# Altium footprint library jointbar.PCBLIB: 193 footprints (part 1 of 13)
Each footprint in its own frame and in the unit in brackets; x right, y up, seen from the top. Pads: shape width x height; smd on the part's side, far side on the other; paste and mask are expansions set on the pad; w line width, h text height; cw(c..) or ccw(c..) is an arc to the next point about the centre after c.
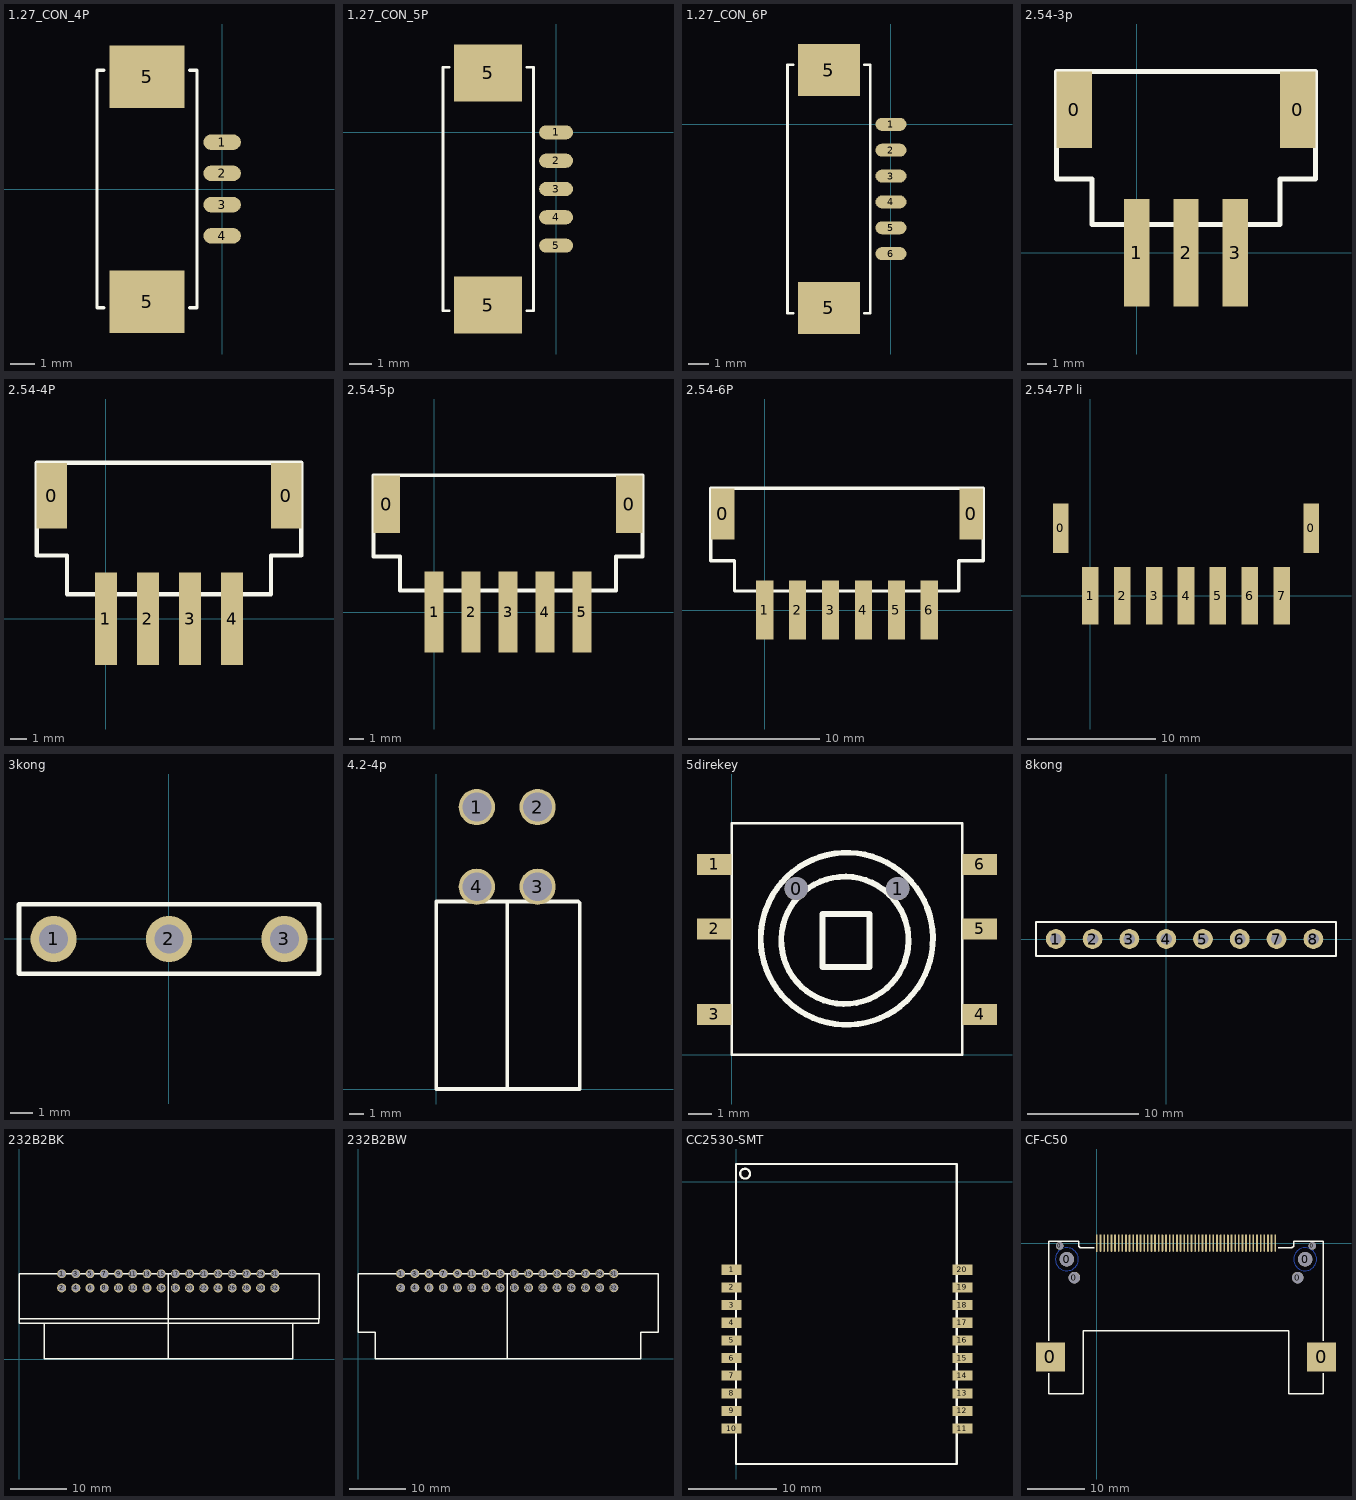
[diagram p0: the footprints below, top view; thin cyan lines are the x and y axes]

## 1.27_CON_4P [mil]
height 135
pads (6):
  oval 60x25 smd: 1(0,75) 2(0,25) 3(0,-25) 4(0,-75)
  rect 120x100 smd: 5(-120,-180) 5(-120,180)
TopOverlay:
  lines w5: -189,-190 -200,-190 -200,190 -189,190 ; -52,-190 -40,-190 -40,190 -52,190

## 1.27_CON_5P [mil]
pads (7):
  oval 60x25 smd: 1(0,0) 2(0,-50) 3(0,-100) 4(0,-150) 5(0,-200)
  rect 120x100 smd: 5(-120,-305) 5(-120,105)
TopOverlay:
  lines w5: -189,-315 -200,-315 -200,115 -189,115 ; -52,-315 -40,-315 -40,115 -52,115

## 1.27_CON_6P [mil]
pads (8):
  oval 60x25 smd: 1(0,0) 2(0,-50) 3(0,-100) 4(0,-150) 5(0,-200) 6(0,-250)
  rect 120x100 smd: 5(-120,-355) 5(-120,105)
TopOverlay:
  lines w5: -189,-365 -200,-365 -200,115 -189,115 ; -52,-365 -40,-365 -40,115 -52,115

## 2.54-3p [mm]
pads (5):
  rect 1.8x3.9 smd: 0(-3.2,7.3) 0(8.2,7.3)
  rect 1.3x5.5 smd: 1(0,0) 2(2.5,0) 3(5,0)
TopOverlay:
  lines w0.254: -4.1,3.75 -2.3,3.75 -2.3,1.45 7.3,1.45 7.3,3.75 9.1,3.75 9.1,9.25 -4.1,9.25 -4.1,3.75

## 2.54-4P [mm]
pads (6):
  rect 1.8x3.9 smd: 0(-3.2,7.3) 0(10.7,7.3)
  rect 1.3x5.5 smd: 1(0,0) 2(2.5,0) 3(5,0) 4(7.5,0)
TopOverlay:
  lines w0.254: -4.1,3.75 -2.3,3.75 -2.3,1.45 9.8,1.45 9.8,3.75 11.6,3.75 11.6,9.25 -4.1,9.25 -4.1,3.75

## 2.54-5p [mm]
pads (7):
  rect 1.8x3.9 smd: 0(-3.2,7.3) 0(13.2,7.3)
  rect 1.3x5.5 smd: 1(0,0) 2(2.5,0) 3(5,0) 4(7.5,0) 5(10,0)
TopOverlay:
  lines w0.254: -4.1,3.75 -4.1,9.25 14.1,9.25 14.1,3.75 12.3,3.75 12.3,1.45 -2.3,1.45 -2.3,3.75 -4.1,3.75

## 2.54-6P [mm]
pads (8):
  rect 1.8x3.9 smd: 0(-3.2,7.3) 0(15.7,7.3)
  rect 1.3x4.5 smd: 1(0,0) 2(2.5,0) 3(5,0) 4(7.5,0) 5(10,0) 6(12.5,0)
TopOverlay:
  lines w0.254: 14.732,3.75 14.732,1.45 -2.3,1.45 -2.3,3.75 -4.1,3.75 -4.1,9.25 16.6,9.25 16.6,3.75 14.8,3.75

## 2.54-7P li [mm]
pads (9):
  rect 1.2x3.9 smd: 0(-2.3,5.3) 0(17.3,5.3)
  rect 1.3x4.5 smd: 1(0,0) 2(2.5,0) 3(5,0) 4(7.5,0) 5(10,0) 6(12.5,0) 7(15,0)

## 3kong [mil]
pads (3):
  round 80 hole 50: 1(-200,0) 2(0,0) 3(200,0)
TopOverlay:
  lines w8: -260,-60 -260,60 260,60 260,-60 -260,-60

## 4.2-4p [mm] "4.2端子"
pads (4):
  round 2.5 hole 2: 1(2.8,19.47) 2(7,19.47) 3(7,13.97) 4(2.8,13.97)
TopOverlay:
  lines w0.254: 0,12.85 0,0 9.8,0 ; 0,12.954 9.8,12.954 ; 4.9,0 4.9,12.954 ; 9.906,0 9.906,12.85

## 5direkey [mm]
pads (8):
  round 1 hole 1: 0(2.8,7.2) 1(7.2,7.2)
  rect 1.5x0.9 smd: 1(-0.75,8.25) 2(-0.75,5.45) 3(-0.75,1.75) 4(10.75,1.75) 5(10.75,5.45) 6(10.75,8.25)
TopOverlay:
  lines w0.1: 0,10 0,0 10,0 10,10 ; 0,10.033 10,10.033
  lines w0.254: 7.098,3.284 cw(c4.909,4.961) 7.112,3.302 ; 7.553,2.316 cw(c4.991,5.028) 7.62,2.38 ; 3.937,3.81 5.969,3.81 5.969,6.096 3.937,6.096 3.937,3.81

## 8kong [mil]
pads (8):
  round 70 hole 40: 1(-390,0) 2(-260,0) 3(-130,0) 4(0,0) 5(130,0) 6(260,0) 7(390,0) 8(520,0)
TopOverlay:
  lines w8: -460,-60 580,-60 600,-60 600,60 -460,60 -460,-60

## 232B2BK [mm]
pads (32):
  round 1.6 hole 1.3: 1(7.62,15.24) 2(7.62,12.7) 3(10.16,15.24) 4(10.16,12.7) 5(12.7,15.24) 6(12.7,12.7) 7(15.24,15.24) 8(15.24,12.7) 9(17.78,15.24) 10(17.78,12.7) 11(20.32,15.24) 12(20.32,12.7) 13(22.86,15.24) 14(22.86,12.7) 15(25.4,15.24) 16(25.4,12.7) 17(27.94,15.24) 18(27.94,12.7) 19(30.48,15.24) 20(30.48,12.7) 21(33.02,15.24) 22(33.02,12.7) 23(35.56,15.24) 24(35.56,12.7) 25(38.1,15.24) 26(38.1,12.7) 27(40.64,15.24) 28(40.64,12.7) 29(43.18,15.24) 30(43.18,12.7) 31(45.72,15.24) 32(45.72,12.7)
TopOverlay:
  lines w0.254: 0.026,6.41 53.594,6.41 53.594,7.154 ; 0.026,6.436 0.026,7.16 ; 4.47,6.36 4.47,0.06 48.87,0.06 48.87,6.36 ; 26.67,0.06 26.67,15.24 ; 53.594,7.16 0.026,7.16 ; 53.594,15.24 53.6,15.234 53.6,14.478 ; 53.6,7.16 53.6,14.98 ; 53.6,15.24 0,15.24 0.026,15.214 0.026,7.16

## 232B2BW [mm]
pads (32):
  round 1.6 hole 1.3: 1(7.62,15.24) 2(7.62,12.7) 3(10.16,15.24) 4(10.16,12.7) 5(12.7,15.24) 6(12.7,12.7) 7(15.24,15.24) 8(15.24,12.7) 9(17.78,15.24) 10(17.78,12.7) 11(20.32,15.24) 12(20.32,12.7) 13(22.86,15.24) 14(22.86,12.7) 15(25.4,15.24) 16(25.4,12.7) 17(27.94,15.24) 18(27.94,12.7) 19(30.48,15.24) 20(30.48,12.7) 21(33.02,15.24) 22(33.02,12.7) 23(35.56,15.24) 24(35.56,12.7) 25(38.1,15.24) 26(38.1,12.7) 27(40.64,15.24) 28(40.64,12.7) 29(43.18,15.24) 30(43.18,12.7) 31(45.72,15.24) 32(45.72,12.7)
TopOverlay:
  lines w0.254: 26.67,0.054 26.67,15.24 ; 53.594,15.24 53.6,15.234 53.6,14.478 ; 53.6,14.98 53.6,4.8 50.5,4.8 50.5,0 3.1,0 3.1,4.8 0.026,4.8 0.026,15.214 0,15.24 53.6,15.24

## CC2530-SMT [mil]
pads (20):
  rect 90x45 smd: 1(-20,-393.23) 2(-20,-471.97) 3(-20,-550.71) 4(-20,-629.45) 5(-20,-708.19) 6(-20,-786.93) 7(-20,-865.67) 8(-20,-944.41) 9(-20,-1023.15) 10(-20,-1101.89) 11(1010,-1101.89) 12(1010,-1023.15) 13(1010,-944.41) 14(1010,-865.67) 15(1010,-786.93) 16(1010,-708.19) 17(1010,-629.45) 18(1010,-550.71) 19(1010,-471.97) 20(1010,-393.23)
TopOverlay:
  circle w10: c40.16,35.51 r22.01
  lines w10: 0,-1259.84 984.25,-1259.84 984.25,78.74 0,78.74 0,-1259.84

## CF-C50 [mil]
pads (58):
  rect 196.85x196.85 smd: 0(-318,-779) 0(1538,-779)
  round 51.18 hole 51.18: 0(-254,-20) 0(1474,-20)
  round 98.42 hole 98.42: 0(-205,-111) 0(1425,-111)
  round 78.74 hole 78.74: 0(-153.54,-236.22) 0(1374.02,-236.22)
  rect 12x120 smd: 1(0,0)
  oval 12x120 smd: 2(49.81,0) 3(99.63,0) 4(149.44,0) 5(199.26,0) 6(249.07,0) 7(298.89,0) 8(348.7,0) 9(398.52,0) 10(448.33,0) 11(498.15,0) 12(547.97,0) 13(597.78,0) 14(647.6,0) 15(697.41,0) 16(747.23,0) 17(797.04,0) 18(846.86,0) 19(896.67,0) 20(946.49,0) 21(996.3,0) 22(1046.12,0) 23(1095.93,0) 24(1145.74,0) 25(1195.56,0) 26(24.91,0) 27(74.72,0) 28(124.54,0) 29(174.35,0) 30(224.17,0) 31(273.98,0) 32(323.8,0) 33(373.61,0) 34(423.43,0) 35(473.24,0) 36(523.06,0) 37(572.87,0) 38(622.69,0) 39(672.5,0) 40(722.32,0) 41(772.13,0) 42(821.95,0) 43(871.76,0) 44(921.58,0) 45(971.39,0) 46(1021.21,0) 47(1071.02,0) 48(1120.84,0) 49(1170.65,0) 50(1220.47,0)
BottomLayer:
  circle w5: c1425,-111 r78.74
  circle w5: c-205,-111 r78.74
TopOverlay:
  lines w10: -328,-890 -328,-1031.31 -91.78,-1031.31 -91.78,-600.78 1313.73,-600.78 1313.73,-1031.31 1549.95,-1031.31 1549.95,-890 ; -328,-669 -328,12 -124,12 -124,-22 -112,-34 -19,-34 ; 1240.95,-34 1333.95,-34 1345.95,-22 1345.95,12 1549.95,12 1549.95,-669